# Altium schematic symbol library SZH-EK105.SchLib: 1 symbol
Pins are listed as number, name and electrical type; pins without a type are passive.

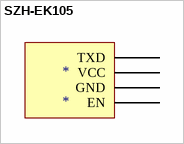
[diagram p0: symbol SZH-EK105]

## SZH-EK105
designator *
pins: 16 TXD, 17 GND (power), 18 VCC (power), 19 EN